# EAGLE library part MMA7331L (library custom)
IC Accelerometer Analog Output
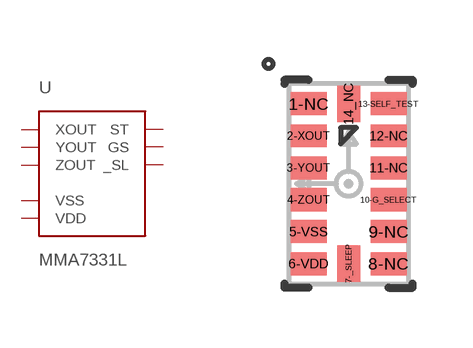
[diagram p12: symbol with the pads of LGA-14; footprint LGA-14]

Designator prefix -

## MMA7331L  [LGA-14]
2-XOUT  XOUT
3-YOUT  YOUT
4-ZOUT  ZOUT
5-VSS  VSS
6-VDD  VDD
7-_SLEEP  _SL
10-G_SELECT  GS
13-SELF_TEST  ST

## Footprint LGA-14 (pad centres in mm)
smd 0.9 x 0.575: 1-NC -1,2; 2-XOUT -1,1.2; 3-YOUT -1,0.4; 4-ZOUT -1,-0.4; 5-VSS -1,-1.2; 6-VDD -1,-2; 8-NC 1,-2; 9-NC 1,-1.2; 10-G_SELECT 1,-0.4; 11-NC 1,0.4; 12-NC 1,1.2; 13-SELF_TEST 1,2
smd 0.575 x 0.9: 7-_SLEEP 0,-2; 14_NC 0,2